# Altium footprint library TO-220AB.PcbLib: 2 footprints
Each footprint in its own frame and in the unit in brackets; x right, y up, seen from the top. Pads: shape width x height; smd on the part's side, far side on the other; paste and mask are expansions set on the pad; w line width, h text height; cw(c..) or ccw(c..) is an arc to the next point about the centre after c.
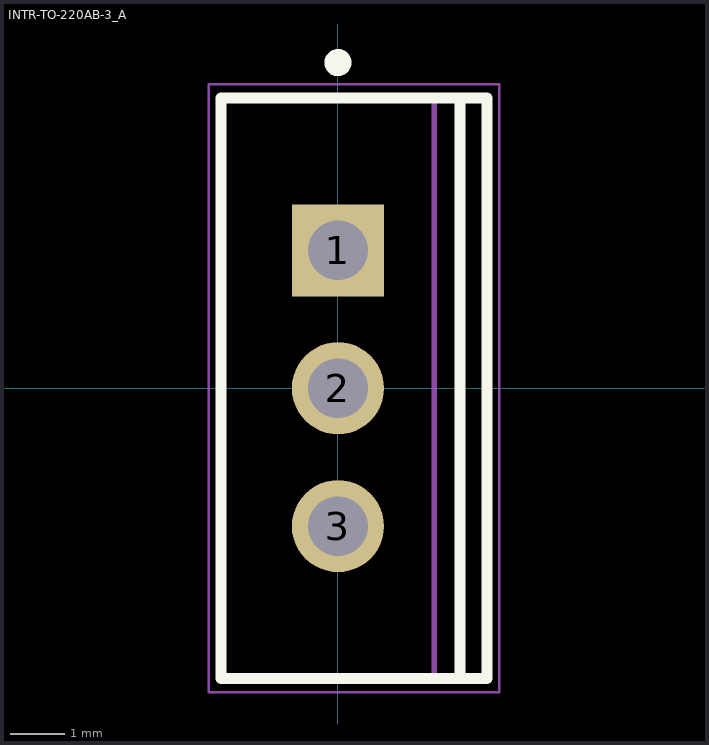
[diagram p0: the footprints below, top view; thin cyan lines are the x and y axes]

## INTR-TO-220AB-3_A [mm] "FM, 3-Leads, Body 10.7x4.85mm, Pitch 2.54mm"
height 22.86
pads (3):
  rect 1.7x1.7 hole 1.1: 1(0,2.54)
  round 1.7 hole 1.1: 2(0,0) 3(0,-2.54)
Top Overlay:
  circle w0.25: c0,6 r0.125
  lines w0.2: 2.245,-5.35 2.245,5.35 ; -2.155,-5.35 2.745,-5.35 2.745,5.35 -2.155,5.35 -2.155,-5.35
Mechanical 13:
  lines w0.1: 1.77,-5.35 1.77,5.35 ; -2.13,-5.35 -2.13,5.35 2.72,5.35 2.72,-5.35 -2.13,-5.35
Mechanical 15:
  lines w0.05: -2.38,-5.6 -2.38,5.6 2.97,5.6 2.97,-5.6 -2.38,-5.6
  lines w0.1: -0.5,0 0.5,0 ; 0,-0.5 0,0.5
3D body: height 6.35, standoff 0, extent -0.245,1.81 0.245,3.27
3D body: height 0, standoff -1.6, extent -0.245,2.205 0.245,2.875
3D body: height 6.35, standoff 0, extent -0.245,-0.73 0.245,0.73
3D body: height 0, standoff -1.6, extent -0.245,-0.335 0.245,0.335
3D body: height 6.35, standoff 0, extent -0.245,-3.27 0.245,-1.81
3D body: height 0, standoff -1.6, extent -0.245,-2.875 0.245,-2.205
3D body: height 16.21, standoff 6.35, extent -2.13,-5.35 2.72,5.35
3D body: height 17.96, standoff 16.21, extent 1.77,-5.075 2.72,5.075
3D body: height 18, standoff 17.96, extent 1.77,0.371 2.72,5.075
3D body: height 18, standoff 17.96, extent 1.77,-5.075 2.72,-0.371
3D body: height 21.76, standoff 21.72, extent 1.77,0.371 2.72,5.075
3D body: height 21.76, standoff 21.72, extent 1.77,-5.075 2.72,-0.371
3D body: height 18.11, standoff 18, extent 1.77,0.727 2.72,5.075
3D body: height 18.11, standoff 18, extent 1.77,-5.075 2.72,-0.727
3D body: height 21.73, standoff 21.62, extent 1.77,0.727 2.72,5.075
3D body: height 21.73, standoff 21.62, extent 1.77,-5.075 2.72,-0.727
3D body: height 18.29, standoff 18.1, extent 1.77,1.056 2.72,5.075
3D body: height 18.29, standoff 18.1, extent 1.77,-5.075 2.72,-1.056
3D body: height 21.62, standoff 21.44, extent 1.77,1.056 2.72,5.075
3D body: height 21.62, standoff 21.44, extent 1.77,-5.075 2.72,-1.056
3D body: height 18.52, standoff 18.28, extent 1.77,1.344 2.72,5.075
3D body: height 18.52, standoff 18.28, extent 1.77,-5.075 2.72,-1.344
3D body: height 21.44, standoff 21.2, extent 1.77,1.344 2.72,5.075
3D body: height 21.44, standoff 21.2, extent 1.77,-5.075 2.72,-1.344
3D body: height 18.81, standoff 18.52, extent 1.77,1.58 2.72,5.075
3D body: height 18.81, standoff 18.52, extent 1.77,-5.075 2.72,-1.58
3D body: height 21.21, standoff 20.92, extent 1.77,1.58 2.72,5.075
3D body: height 21.21, standoff 20.92, extent 1.77,-5.075 2.72,-1.58
3D body: height 19.14, standoff 18.8, extent 1.77,1.755 2.72,5.075
3D body: height 19.14, standoff 18.8, extent 1.77,-5.075 2.72,-1.755
3D body: height 20.92, standoff 20.59, extent 1.77,1.755 2.72,5.075
3D body: height 20.92, standoff 20.59, extent 1.77,-5.075 2.72,-1.755
3D body: height 19.49, standoff 19.13, extent 1.77,1.863 2.72,5.075
3D body: height 19.49, standoff 19.13, extent 1.77,-5.075 2.72,-1.863
3D body: height 20.59, standoff 20.23, extent 1.77,1.863 2.72,5.075
3D body: height 20.59, standoff 20.23, extent 1.77,-5.075 2.72,-1.863
3D body: height 19.86, standoff 19.49, extent 1.77,1.9 2.72,5.075
3D body: height 19.86, standoff 19.49, extent 1.77,-5.075 2.72,-1.9
3D body: height 20.24, standoff 19.86, extent 1.77,1.9 2.72,5.075
3D body: height 20.24, standoff 19.86, extent 1.77,-5.075 2.72,-1.9
3D body: height 22.86, standoff 21.76, extent 1.77,-5.075 2.72,5.075

## PCBComponent_1 [mm]